# EAGLE library part 62000611622 (library Wire-to-Board (rev18a))
WR-WTB 2.00mm Male Vertical Shrouded Header, 6 Pins=>Code : Con_WTB_2.00_PCB_THT_62000611622 <http://katalog.we-online.de/media/thumbs2/eican/thb_Con_WTB_2.00_PCB_THT_6200xx11622_pf2.jpg> Details see: http://katalog.we-online.de/en/em/WTB_2_00_MALE_VERTICAL_SHROUDED_HEADER_6200XX11622 Created 2014-06-05, Karrer Zheng 2014 (C) Würth Elektronik
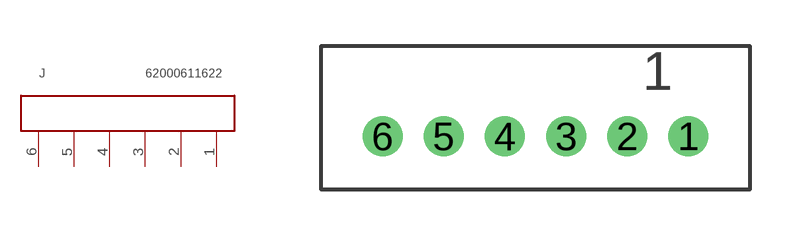
[diagram p25: symbol with the pads of 62000611622; footprint 62000611622]

Designator prefix J

## 62000611622  [62000611622]
1  1  pas
2  2  pas
3  3  pas
4  4  pas
5  5  pas
6  6  pas

## Footprint 62000611622 (pad centres in mm)
WR-WTB 2.00mm Male Vertical Shrouded Header, 6 Pins
drill 0.8: 1 5,0; 2 3,0; 3 1,0; 4 -1,0; 5 -3,0; 6 -5,0